# Altium schematic symbol library PBL - Transformers.SchLib: 1 symbol
Pins are listed as number, name and electrical type; pins without a type are passive.

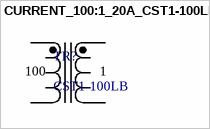
[diagram p0: symbol CURRENT_100:1_20A_CST1-100LB]

## CURRENT_100:1_20A_CST1-100LB
designator TR?, comment CST1-100LB
Sufrace Mount Current Transformer 100:1 Ratio 20A; Frequency: 9kHz-1000kHz; Ratio: 100:1; Current (Max): 20A; Manufacturer Part Number: CST1-100LB
footprint CST1 (Current Transformer)
pins: 4, 6, 7, 8
text: 100; 1